# Altium footprint library 452005691#NIBP涡轮驱动板V2.00.PcbLib: 73 footprints (part 5 of 5)
Each footprint in its own frame and in the unit in brackets; x right, y up, seen from the top. Pads: shape width x height; smd on the part's side, far side on the other; paste and mask are expansions set on the pad; w line width, h text height; cw(c..) or ccw(c..) is an arc to the next point about the centre after c.
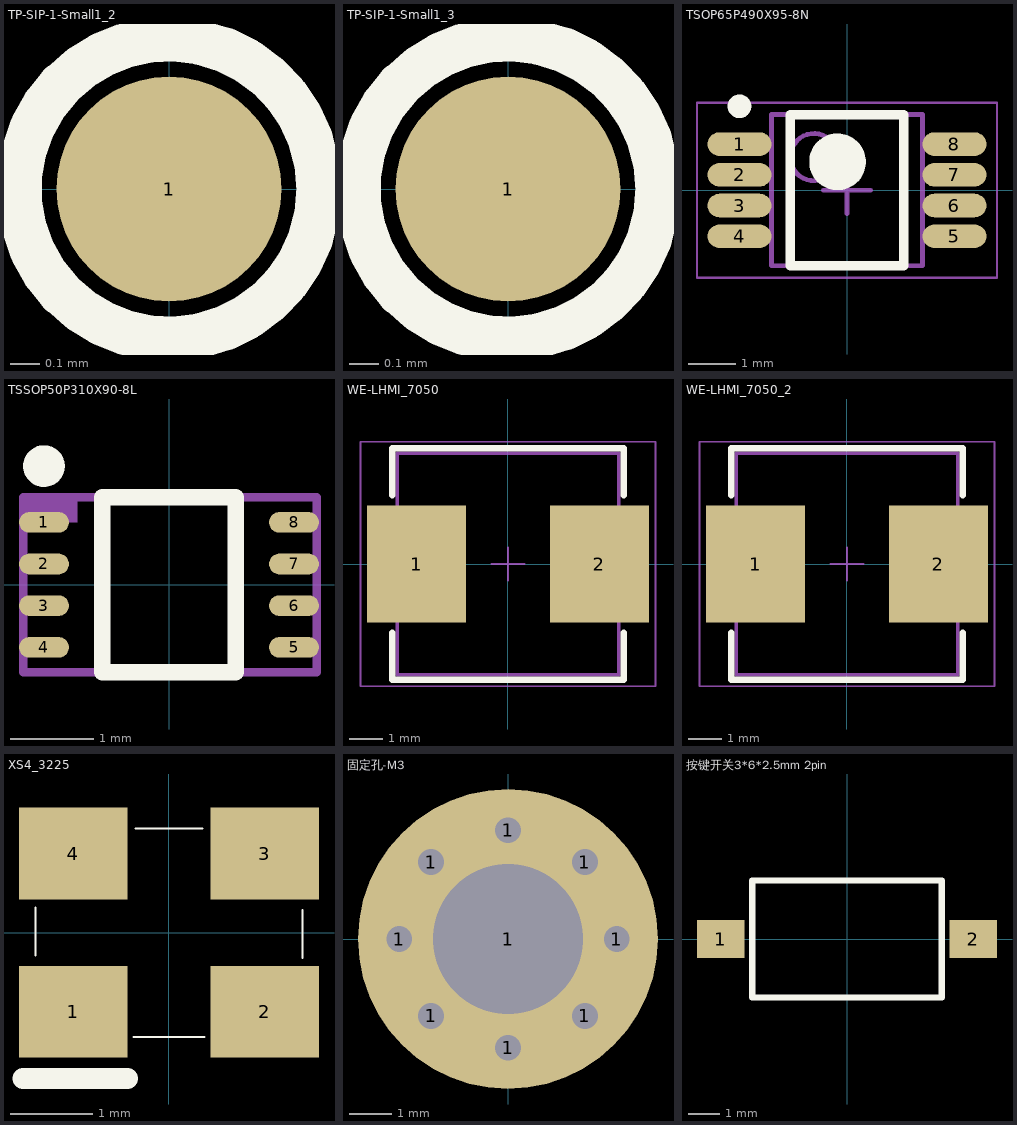
[diagram p4: the footprints below, top view; thin cyan lines are the x and y axes]

## TP-SIP-1-Small1_2 [mil]
pads (1):
  round 30 smd: 1(0,0)
Top Overlay:
  circle w6: c0,0 r20

## TP-SIP-1-Small1_3 [mil]
pads (1):
  round 30 smd: 1(0,0)
Top Overlay:
  circle w6: c0,0 r20

## TSOP65P490X95-8N [mm] "TSOP, 8-Leads, Body 3.00x3.00mm, Pitch 0.65mm, IPC Medium Density"
height 0.95
pads (8):
  oval 1.35x0.5 smd: 1(-2.275,0.975) 2(-2.275,0.325) 3(-2.275,-0.325) 4(-2.275,-0.975) 5(2.275,-0.975) 6(2.275,-0.325) 7(2.275,0.325) 8(2.275,0.975)
Top Overlay:
  circle w0.25: c-2.275,1.775 r0.125
  circle w0.6: c-0.2,0.6 r0.3
  lines w0.2: -1.2,-1.6 -1.2,1.6 1.2,1.6 1.2,-1.6 -1.2,-1.6
Mechanical 13:
  circle w0.1: c-0.7,0.7 r0.5
  lines w0.1: -1.6,-1.6 -1.6,1.6 1.6,1.6 1.6,-1.6 -1.6,-1.6
Mechanical 15:
  lines w0.05: -3.175,-1.85 -3.175,1.85 3.175,1.85 3.175,-1.85 -3.175,-1.85
  lines w0.1: -0.5,0 0.5,0 ; 0,-0.5 0,0.5
3D body "TSOP65P490X95-8N.step": height 0.95, standoff 0, extent -2.45,-1.6 2.45,1.6

## TSSOP50P310X90-8L [mm] "TSSOP, 8-Leads, Body 2,00x2,30mm, Pitch 0,50mm, IPC High Density"
height 0.9
pads (8):
  oval 0.6x0.25 smd: 1(-1.5,0.75) 2(-1.5,0.25) 3(-1.5,-0.25) 4(-1.5,-0.75) 5(1.5,-0.75) 6(1.5,-0.25) 7(1.5,0.25) 8(1.5,0.75)
Top Overlay:
  circle w0.25: c-1.5,1.425 r0.125
  lines w0.2: -0.8,-1.05 -0.8,1.05 0.8,1.05 0.8,-1.05 -0.8,-1.05
Mechanical 16:
  region: -1.75,1.05 -1.75,0.75 -1.1,0.75 -1.1,1.05
  lines w0.1: -1.75,-1.05 1.775,-1.05 1.775,1.05 -1.75,1.05 -1.75,-1.05
3D body "TSSOP50P310X90-8L.step": height 0.9, standoff 0, extent -1.549,-1.05 1.549,1.05

## WE-LHMI_7050 [mm] "SMT Power Inductor, 2-Leads, body 6.6x6.6mm"
height 4.8
pads (2):
  rect 2.95x3.5 smd: 1(-2.725,0) 2(2.725,0)
Top Overlay:
  lines w0.2: -3.45,-2.05 -3.45,-3.45 3.45,-3.45 3.45,-2.05 ; -3.45,2.05 -3.45,3.45 3.45,3.45 3.45,2.05
Mechanical 11:
  lines w0.1: -3.3,-3.3 -3.3,3.3 3.3,3.3 3.3,-3.3 -3.3,-3.3
Mechanical 13:
  lines w0.1: -3.3,-3.3 -3.3,3.3 3.3,3.3 3.3,-3.3 -3.3,-3.3
Mechanical 15:
  lines w0.05: -0.5,0 0.5,0 ; 0,-0.5 0,0.5 ; -4.4,-3.65 -4.4,3.65 4.4,3.65 4.4,-3.65 -4.4,-3.65
3D body "STEP-WE-LHMI-7050-rev1.stp": height 4.8, standoff 0, extent -3.65,-3.3 3.65,3.3

## WE-LHMI_7050_2 [mm]
pads (2):
  rect 2.95x3.5 smd: 1(-2.725,0) 2(2.725,0)
Top Overlay:
  lines w0.2: -3.45,-2.05 -3.45,-3.45 3.45,-3.45 3.45,-2.05 ; -3.45,2.05 -3.45,3.45 3.45,3.45 3.45,2.05
Mechanical 11:
  lines w0.1: -3.3,-3.3 -3.3,3.3 3.3,3.3 3.3,-3.3 -3.3,-3.3
Mechanical 13:
  lines w0.1: -3.3,-3.3 -3.3,3.3 3.3,3.3 3.3,-3.3 -3.3,-3.3
Mechanical 15:
  lines w0.05: -0.5,0 0.5,0 ; 0,-0.5 0,0.5 ; -4.4,-3.65 -4.4,3.65 4.4,3.65 4.4,-3.65 -4.4,-3.65
3D body "STEP-WE-LHMI-7050-rev1.stp": height 4.8, standoff 0, extent -3.65,-3.3 3.65,3.3

## XS4_3225 [mil] "XS4_3225"
height 104.33
pads (4):
  rect 52x44 smd: 1(-46,-38) 2(46,-38) 3(46,38) 4(-46,38)
Top Overlay:
  lines w1: -64,-11 -64,12 ; -17,-50 17,-50 ; -16,50 16,50 ; 64,-12 64,11
  lines w10: -70,-70 -20,-70

## 固定孔-M3 [mm]
height 1.25
pads (9):
  round 1 hole 0.6: 1(-2.54,0) 1(-1.796,-1.796) 1(-1.796,1.796) 1(0,-2.54) 1(0,2.54) 1(1.796,-1.796) 1(1.796,1.796) 1(2.54,0)
  round 7 hole 3.5: 1(0,0)

## 按键开关3*6*2.5mm 2pin [mm]
height 0.5
pads (2):
  rect 1.5x1.2 smd: 1(-4,0) 2(4,0)
Top Overlay:
  lines w0.2: -3,-1.85 3,-1.85 3,1.85 -3,1.85 -3,-1.85